# EAGLE library part 64128K-RGB-MODULE (library jt-displays-outlines)
Displaytech 64128K RGB module RS order 564393
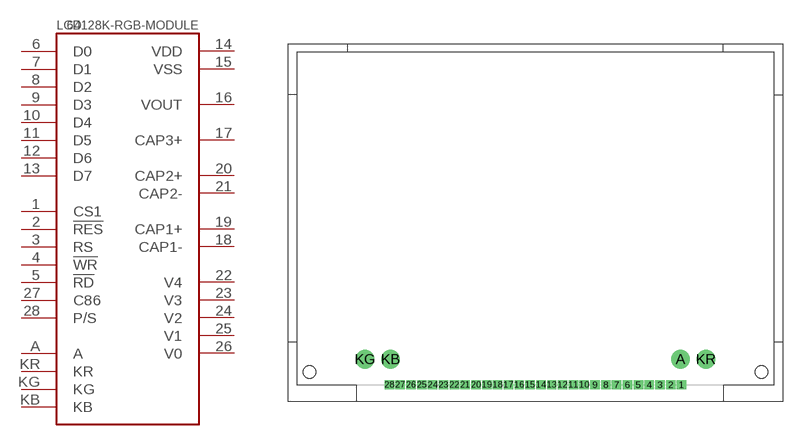
[diagram p2: symbol with the pads of 64128K-RGB-MODULE; footprint 64128K-RGB-MODULE]

Designator prefix LCD

## 64128K-RGB-MODULE  [64128K-RGB-MODULE]
1  CS1  in
2  !RES  in
3  RS  in
4  !WR  in
5  !RD  in
6  D0
7  D1
8  D2
9  D3
10  D4
11  D5
12  D6
13  D7
14  VDD  pwr
15  VSS  pwr
16  VOUT
17  CAP3+
18  CAP1-
19  CAP1+
20  CAP2+
21  CAP2-
22  V4
23  V3
24  V2
25  V1
26  V0
27  C86  in
28  P/S  in
A  A
KB  KB
KG  KG
KR  KR

## Footprint 64128K-RGB-MODULE (pad centres in mm)
Displaytech 64128K-RGB module RS order code 564393
drill 0.6 pad 1.016 square: 1 17.145,0; 2 15.875,0; 3 14.605,0; 4 13.335,0; 5 12.065,0; 6 10.795,0; 7 9.525,0; 8 8.255,0; 9 6.985,0; 10 5.715,0; 11 4.445,0; 12 3.175,0; 13 1.905,0; 14 0.635,0; 15 -0.635,0; 16 -1.905,0; 17 -3.175,0; 18 -4.445,0; 19 -5.715,0; 20 -6.985,0; 21 -8.255,0; 22 -9.525,0; 23 -10.795,0; 24 -12.065,0; 25 -13.335,0; 26 -14.605,0; 27 -15.875,0; 28 -17.145,0
drill 0.8 pad 2.184 round: A 17,3; KB -17,3; KG -20,3; KR 20,3
hole 1.5 at -26.5,1.5
hole 1.5 at 26.5,1.5